# Altium schematic symbol library MyLibs_Led_Drivers.SchLib: 11 symbols
Pins are listed as number, name and electrical type; pins without a type are passive.

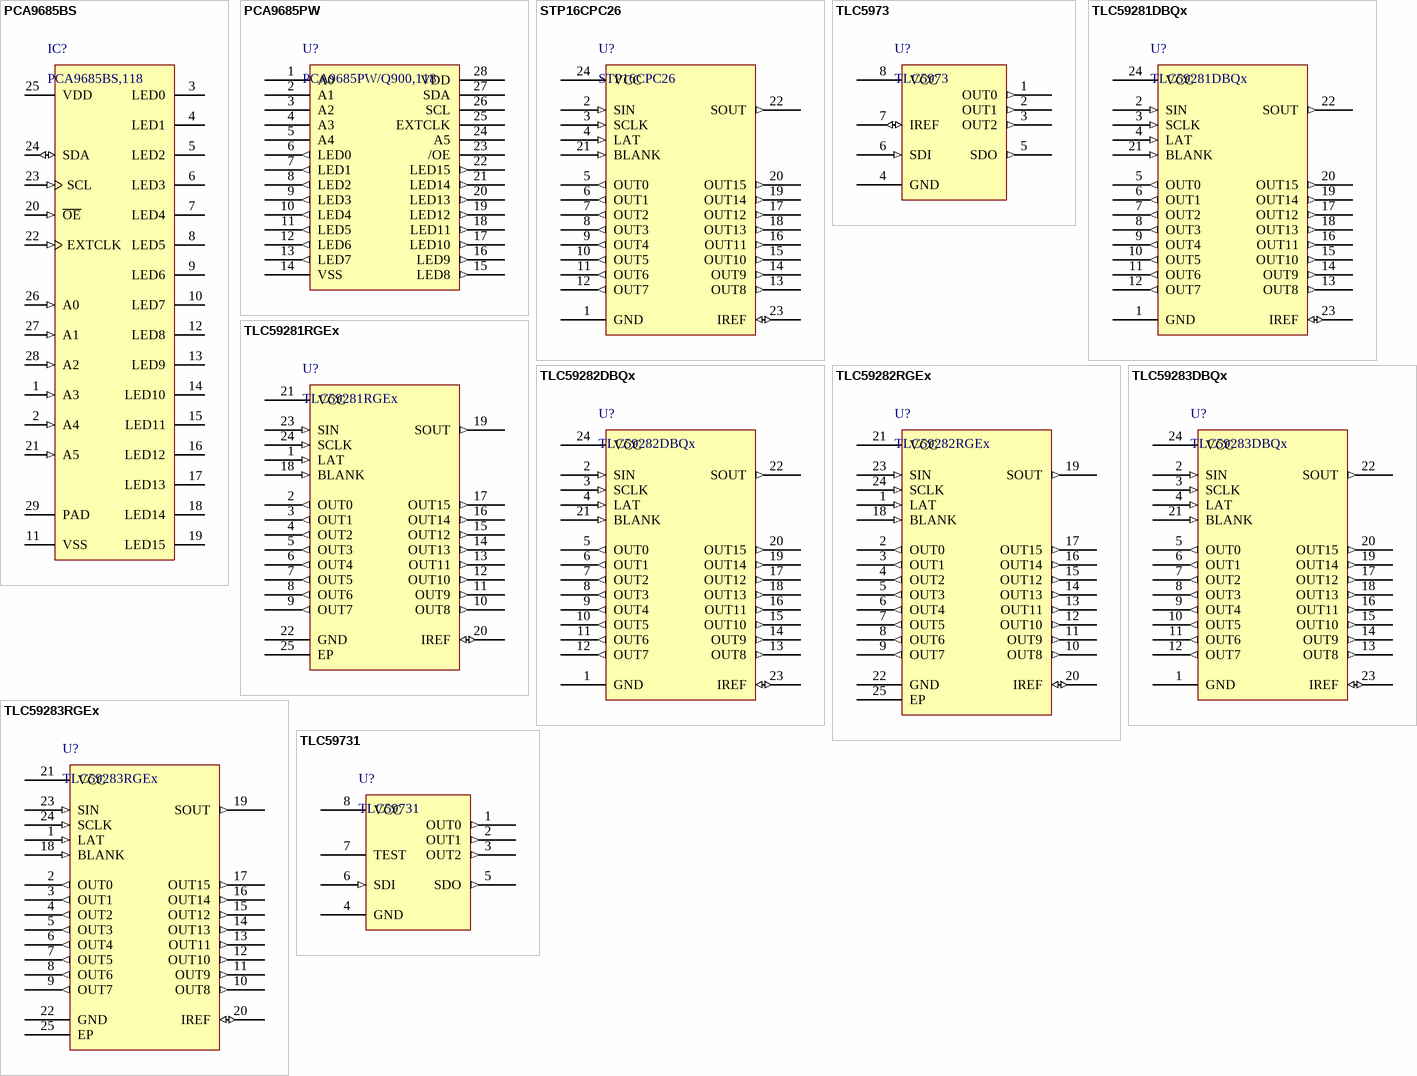
[diagram p0: symbols PCA9685BS to TLC59731]

## PCA9685BS
designator IC?, comment PCA9685BS,118
16-channel, 12-bit PWM Fm+ I2C-bus LED controller 28HVQFN
pins: 1 A3 (in) "address input 3", 2 A4 (in) "address input 4", 3 LED0 (hiz) "LED driver 0", 4 LED1 (hiz) "LED driver 1", 5 LED2 (hiz) "LED driver 2", 6 LED3 (hiz) "LED driver 3", 7 LED4 (hiz) "LED driver 4", 8 LED5 (hiz) "LED driver 5", 9 LED6 (hiz) "LED driver 6", 10 LED7 (hiz) "LED driver 7", 11 VSS (power) "supply ground", 12 LED8 (hiz) "LED driver 8", 13 LED9 (hiz) "LED driver 9", 14 LED10 (hiz) "LED driver 10", 15 LED11 (hiz) "LED driver 11", 16 LED12 (hiz) "LED driver 12", 17 LED13 (hiz) "LED driver 13", 18 LED14 (hiz) "LED driver 14", 19 LED15 (hiz) "LED driver 15", 20 ~{OE} (in) "active LOW output enable", 21 A5 (in) "address input 5", 22 EXTCLK (in) "external clock input", 23 SCL (in) "serial clock line", 24 SDA (io) "serial data line", 25 VDD (power) "supply voltage", 26 A0 (in) "address input 0", 27 A1 (in) "address input 1", 28 A2 (in) "address input 2", 29 PAD (power)

## PCA9685PW
designator U?, comment PCA9685PW/Q900,118
16-channel, 12-bit PWM Fm+ I2C-bus LED controller 28TSSOP
pins: 1 A0, 2 A1, 3 A2, 4 A3, 5 A4, 6 LED0 (out), 7 LED1 (out), 8 LED2 (out), 9 LED3 (out), 10 LED4 (out), 11 LED5 (out), 12 LED6 (out), 13 LED7 (out), 14 VSS, 15 LED8 (out), 16 LED9 (out), 17 LED10 (out), 18 LED11 (out), 19 LED12 (out), 20 LED13 (out), 21 LED14 (out), 22 LED15 (out), 23 /OE, 24 A5, 25 EXTCLK, 26 SCL, 27 SDA, 28 VDD

## STP16CPC26
designator U?
Low voltage 16-bit constant current LED sink driver - Available packages: QSOP-24, SO-24, TSSOP24
pins: 1 GND (power), 2 SIN (in), 3 SCLK (in), 4 LAT (in), 5 OUT0 (out), 6 OUT1 (out), 7 OUT2 (out), 8 OUT3 (out), 9 OUT4 (out), 10 OUT5 (out), 11 OUT6 (out), 12 OUT7 (out), 13 OUT8 (out), 14 OUT9 (out), 15 OUT10 (out), 16 OUT11 (out), 17 OUT12 (out), 18 OUT13 (out), 19 OUT14 (out), 20 OUT15 (out), 21 BLANK (in), 22 SOUT (out), 23 IREF (io), 24 VCC (power)

## TLC5973
designator U?
3-channel, 12-bit PWM constant current LED driver
pins: 1 OUT0 (out), 2 OUT1 (out), 3 OUT2 (out), 4 GND (power), 5 SDO (out), 6 SDI (in), 7 IREF (io), 8 VCC (power)

## TLC59281DBQx
designator U?
16-Channel, Constant-Current LED Driver - SSOP-24
pins: 1 GND (power), 2 SIN (in), 3 SCLK (in), 4 LAT (in), 5 OUT0 (out), 6 OUT1 (out), 7 OUT2 (out), 8 OUT3 (out), 9 OUT4 (out), 10 OUT5 (out), 11 OUT6 (out), 12 OUT7 (out), 13 OUT8 (out), 14 OUT9 (out), 15 OUT10 (out), 16 OUT11 (out), 17 OUT12 (out), 18 OUT13 (out), 19 OUT14 (out), 20 OUT15 (out), 21 BLANK (in), 22 SOUT (out), 23 IREF (io), 24 VCC (power)

## TLC59281RGEx
designator U?
16-Channel, Constant-Current LED Driver - VQFN-24
pins: 1 LAT (in), 2 OUT0 (out), 3 OUT1 (out), 4 OUT2 (out), 5 OUT3 (out), 6 OUT4 (out), 7 OUT5 (out), 8 OUT6 (out), 9 OUT7 (out), 10 OUT8 (out), 11 OUT9 (out), 12 OUT10 (out), 13 OUT11 (out), 14 OUT13 (out), 15 OUT12 (out), 16 OUT14 (out), 17 OUT15 (out), 18 BLANK (in), 19 SOUT (out), 20 IREF (io), 21 VCC (power), 22 GND (power), 23 SIN (in), 24 SCLK (in), 25 EP (power)

## TLC59282DBQx
designator U?
16-Channel, Constant-Current LED Driver with 4-Channel Grouped Delay - SSOP-24
pins: 1 GND (power), 2 SIN (in), 3 SCLK (in), 4 LAT (in), 5 OUT0 (out), 6 OUT1 (out), 7 OUT2 (out), 8 OUT3 (out), 9 OUT4 (out), 10 OUT5 (out), 11 OUT6 (out), 12 OUT7 (out), 13 OUT8 (out), 14 OUT9 (out), 15 OUT10 (out), 16 OUT11 (out), 17 OUT12 (out), 18 OUT13 (out), 19 OUT14 (out), 20 OUT15 (out), 21 BLANK (in), 22 SOUT (out), 23 IREF (io), 24 VCC (power)

## TLC59282RGEx
designator U?
16-Channel, Constant-Current LED Driver with 4-Channel Grouped Delay - VQFN-24
pins: 1 LAT (in), 2 OUT0 (out), 3 OUT1 (out), 4 OUT2 (out), 5 OUT3 (out), 6 OUT4 (out), 7 OUT5 (out), 8 OUT6 (out), 9 OUT7 (out), 10 OUT8 (out), 11 OUT9 (out), 12 OUT10 (out), 13 OUT11 (out), 14 OUT13 (out), 15 OUT12 (out), 16 OUT14 (out), 17 OUT15 (out), 18 BLANK (in), 19 SOUT (out), 20 IREF (io), 21 VCC (power), 22 GND (power), 23 SIN (in), 24 SCLK (in), 25 EP (power)

## TLC59283DBQx
designator U?
16-Channel, Constant-Current LED Driver with Pre-Charge FET - SSOP-24
pins: 1 GND (power), 2 SIN (in), 3 SCLK (in), 4 LAT (in), 5 OUT0 (out), 6 OUT1 (out), 7 OUT2 (out), 8 OUT3 (out), 9 OUT4 (out), 10 OUT5 (out), 11 OUT6 (out), 12 OUT7 (out), 13 OUT8 (out), 14 OUT9 (out), 15 OUT10 (out), 16 OUT11 (out), 17 OUT12 (out), 18 OUT13 (out), 19 OUT14 (out), 20 OUT15 (out), 21 BLANK (in), 22 SOUT (out), 23 IREF (io), 24 VCC (power)

## TLC59283RGEx
designator U?
16-Channel, Constant-Current LED Driver with Pre-Charge FET - VQFN-24
pins: 1 LAT (in), 2 OUT0 (out), 3 OUT1 (out), 4 OUT2 (out), 5 OUT3 (out), 6 OUT4 (out), 7 OUT5 (out), 8 OUT6 (out), 9 OUT7 (out), 10 OUT8 (out), 11 OUT9 (out), 12 OUT10 (out), 13 OUT11 (out), 14 OUT13 (out), 15 OUT12 (out), 16 OUT14 (out), 17 OUT15 (out), 18 BLANK (in), 19 SOUT (out), 20 IREF (io), 21 VCC (power), 22 GND (power), 23 SIN (in), 24 SCLK (in), 25 EP (power)

## TLC59731
designator U?
3-channel, 8-bit, PWM LED driver with Single-Wire Interface
pins: 1 OUT0 (out), 2 OUT1 (out), 3 OUT2 (out), 4 GND (power), 5 SDO (out), 6 SDI (in), 7 TEST, 8 VCC (power)